# EAGLE library part MIC4606 (library common)
85V Full-Bridge Mosfet Driver
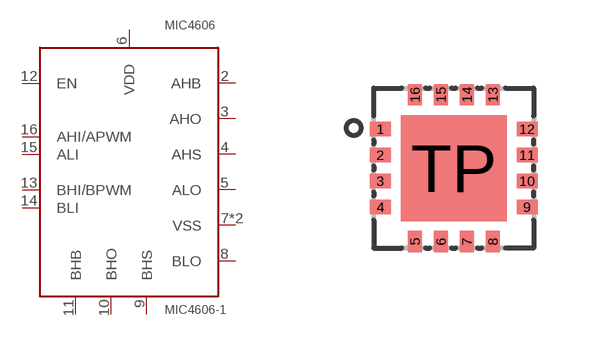
[diagram p12: symbol with the pads of QFN44-16LD-PL-2; footprint QFN44-16LD-PL-2]

Designator prefix MD

## MIC4606-1  [QFN44-16LD-PL-2]
2  AHB
3  AHO
4  AHS
5  ALO
6  VDD
7  VSS
8  BLO
9  BHS
10  BHO
11  BHB
12  EN
13  BHI/BPWM
14  BLI
15  ALI
16  AHI/APWM
TP  VSS

## MIC4606-2  [QFN44-16LD-PL-2]
Pads as for QFN44-16LD-PL-2

## Footprint QFN44-16LD-PL-2 (pad centres in mm)
smd 0.53 x 0.36: 1 -1.835,0.975; 2 -1.835,0.325; 3 -1.835,-0.325; 4 -1.835,-0.975; 9 1.835,-0.975; 10 1.835,-0.325; 11 1.835,0.325; 12 1.835,0.975
smd 0.36 x 0.53: 5 -0.975,-1.835; 6 -0.325,-1.835; 7 0.325,-1.835; 8 0.975,-1.835; 13 0.975,1.835; 14 0.325,1.835; 15 -0.325,1.835; 16 -0.975,1.835
smd 2.65 x 2.65: TP 0,0